# EAGLE library part NHD-3.5-320240FT (library BW-Active)
SPI 3.5" LCD, 320x240, resistive touch
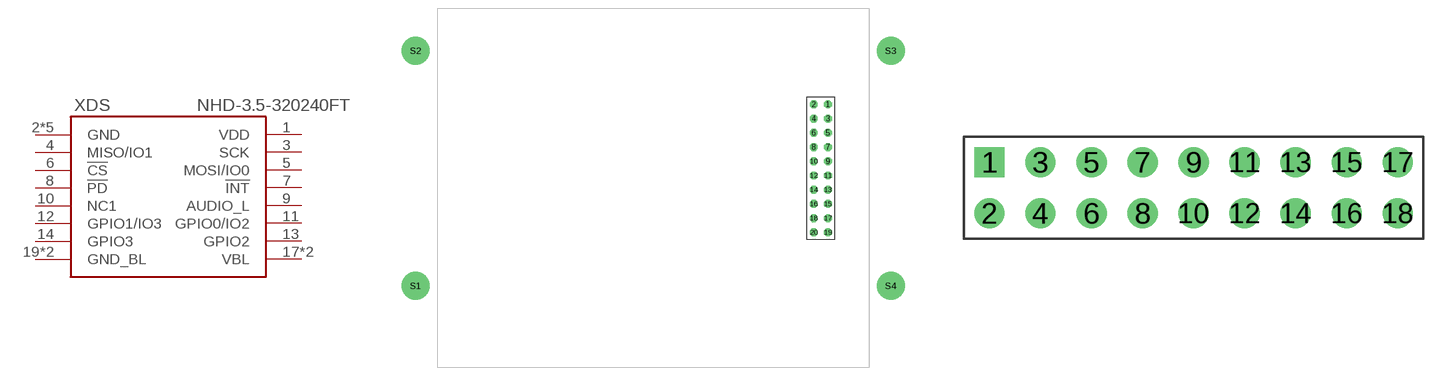
[diagram p14: symbol with the pads of NHD-3.5-320240FT; footprints NHD-3.5-320240FT, 2X9PIN]

Designator prefix XDS

## NHD-3.5-320240FT  [NHD-3.5-320240FT]
1  VDD  pwr
2  GND  pwr
3  SCK
4  MISO/IO1
5  MOSI/IO0
6  !CS
7  !INT
8  !PD
9  AUDIO_L
10  NC1
11  GPIO0/IO2
12  GPIO1/IO3
13  GPIO2
14  GPIO3
17  VBL  pwr
18  VBL  pwr
19  GND_BL
20  GND_BL
S1  GND  pwr
S2  GND  pwr
S3  GND  pwr
S4  GND  pwr

## NHD-3.5-320240FT-CON  [2X9PIN]
1  GND  pwr
2  VDD  pwr
3  NC1
4  SCK
5  MISO/IO1
6  MOSI/IO0
7  !CS
8  !INT
9  !PD
10  AUDIO_L
11  GPIO0/IO2
12  GPIO1/IO3
13  GPIO2
14  GPIO3
15  VBL  pwr
16  GND_BL
17  VBL  pwr
18  GND_BL

## Footprint NHD-3.5-320240FT (pad centres in mm)
drill 0.9 octagon: 1 69.67,46.88; 2 67.13,46.88; 3 69.67,44.34; 4 67.13,44.34; 5 69.67,41.8; 6 67.13,41.8; 7 69.67,39.26; 8 67.13,39.26; 9 69.67,36.72; 10 67.13,36.72; 11 69.67,34.18; 12 67.13,34.18; 13 69.67,31.64; 14 67.13,31.64; 15 69.67,29.1; 16 67.13,29.1; 17 69.67,26.56; 18 67.13,26.56; 19 69.67,24.02; 20 67.13,24.02
drill 3.5 pad 5: S1 -4,14.45; S2 -4,56.45; S3 80.9,56.45; S4 80.9,14.45

## Footprint 2X9PIN (pad centres in mm)
drill 1 square: 1 -8.89,1.27
drill 1: 2 -8.89,-1.27; 3 -6.35,1.27; 4 -6.35,-1.27; 5 -3.81,1.27; 6 -3.81,-1.27; 7 -1.27,1.27; 8 -1.27,-1.27; 9 1.27,1.27; 10 1.27,-1.27; 11 3.81,1.27; 12 3.81,-1.27; 13 6.35,1.27; 14 6.35,-1.27; 15 8.89,1.27; 16 8.89,-1.27; 17 11.43,1.27; 18 11.43,-1.27